# Altium footprint library THT_General.PcbLib: 10 footprints
Each footprint in its own frame and in the unit in brackets; x right, y up, seen from the top. Pads: shape width x height; smd on the part's side, far side on the other; paste and mask are expansions set on the pad; w line width, h text height; cw(c..) or ccw(c..) is an arc to the next point about the centre after c.
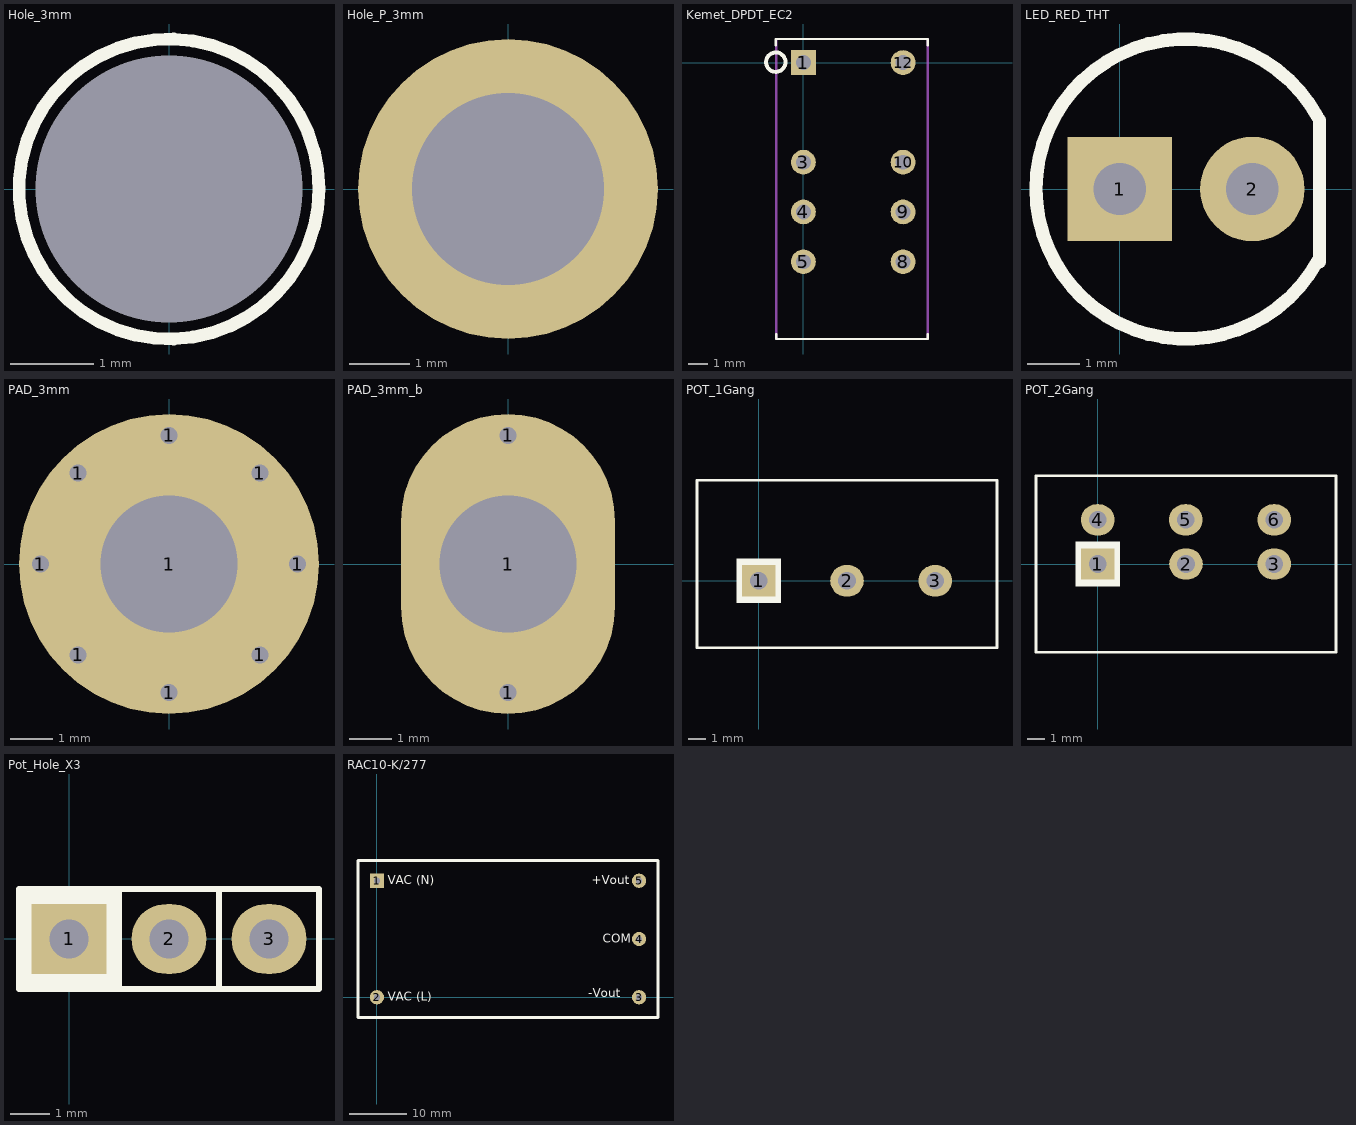
[diagram p0: the footprints below, top view; thin cyan lines are the x and y axes]

## Hole_3mm [mm]
pads (1):
  round 0 hole 3.2: 1(0,0)
Top Overlay:
  circle w0.152: c0,0 r1.8

## Hole_P_3mm [mm]
pads (1):
  round 5 hole 3.2: ""(0,0)

## Kemet_DPDT_EC2 [mm] "Relay Non-latch type and single coil latch type"
pads (8):
  rect 1.258x1.258 hole 0.75: 1(0,0)
  round 1.258 hole 0.75: 3(0,-5.08) 4(0,-7.62) 5(0,-10.16) 8(5.08,-10.16) 9(5.08,-7.62) 10(5.08,-5.08) 12(5.08,0)
Top Overlay:
  circle w0.2: c-1.41,0.02 r0.495
  lines w0.127: -1.41,0.884 -1.41,1.2 6.35,1.2 6.35,0.884 ; -1.397,-13.843 -1.397,-14.097 6.35,-14.097 6.35,-13.843
Mechanical 1:
  lines w0.127: -1.397,-14.097 6.35,-14.097 6.35,1.2 -1.397,1.2 -1.397,-14.097
3D body "20758N''.stp": height 9.2, standoff -2.95, extent -1.11,-13.877 6.19,0.923

## LED_RED_THT [mm]
pads (2):
  rect 2x2 hole 1: 1(0,0)
  round 2 hole 1: 2(2.54,0)
Top Overlay:
  lines w0.254: 3.778,-1.4 cw(c1.27,0) 3.778,1.4 ; 3.825,-1.4 3.825,1.317
3D body "ALSRobot-LED Red 5mm.STEP": height 12.31, standoff -2.49, extent -1.61,-2.972 3.81,3.048

## PAD_3mm [mm]
pads (9):
  round 0.8 hole 0.4: 1(-3,0) 1(-2.121,-2.121) 1(-2.121,2.121) 1(0,-3) 1(0,3) 1(2.121,-2.121) 1(2.121,2.121) 1(3,0)
  round 7 hole 3.2: 1(0,0)

## PAD_3mm_b [mm]
pads (3):
  round 0.8 hole 0.4: 1(0,-3) 1(0,3)
  oval 5x7 hole 3.2: 1(0,0)

## POT_1Gang [mm]
pads (3):
  rect 1.905x1.778 hole 1: 1(0,0)
  oval 1.905x1.778 hole 1: 2(5,0) 3(10,0)
Top Overlay:
  rectangle: -1.27,-1.27 1.27,1.27
  lines w0.152: -3.5,-3.8 13.5,-3.8 13.5,5.7 -3.5,5.7 -3.5,-3.8
3D body "User Library-User Library-Potentiometer.STEP": height 21.38, standoff -3.56, extent -3.4,-18.465 13.364,5.665

## POT_2Gang [mm]
pads (6):
  rect 1.905x1.778 hole 1: 1(0,0)
  oval 1.905x1.778 hole 1: 2(5,0) 3(10,0) 4(0,2.5) 5(4.982,2.5) 6(10,2.5)
Top Overlay:
  rectangle: -1.27,-1.27 1.27,1.27
  lines w0.152: -3.5,-5 13.5,-5 13.5,5 -3.5,5 -3.5,-5
3D body "User Library-User Library-Potentiometer.STEP": height 21.38, standoff -3.56, extent -3.4,-16.065 13.364,8.065
3D body "User Library-User Library-Potentiometer.STEP": height 21.38, standoff -3.56, extent -3.4,-18.465 13.364,5.665

## Pot_Hole_X3 [mm] "3-pin, 2.54"
pads (3):
  rect 1.905x1.778 hole 1: 1(0,0)
  oval 1.905x1.778 hole 1: 2(2.54,0) 3(5.08,0)
Top Overlay:
  rectangle: -1.27,-1.27 1.27,1.27
  lines w0.152: -1.27,-1.27 -1.27,1.27 6.35,1.27 6.35,-1.268 -1.27,-1.268 ; 1.27,-1.27 1.27,1.27 ; 3.81,-1.268 3.81,1.27 ; 3.81,1.27 3.81,1.27

## RAC10-K/277 [mm] "RECOM AC/DC power supply"
pads (5):
  rect 2.5x2.5 hole 1.1: 1(0,20.32)
  round 2.5 hole 1.1: 2(0,0) 3(45.72,0) 4(45.72,10.16) 5(45.72,20.32)
Top Overlay:
  lines w0.508: -3.302,-3.556 -3.302,23.876 49.022,23.876 49.022,-3.556 -3.302,-3.556
  text "-Vout" at 36.83,0 h1.52
  text "+Vout" at 37.465,19.685 h1.52
  text "COM" at 39.37,9.525 h1.52
  text "VAC (L)" at 1.905,-0.635 h1.52
  text "VAC (N)" at 1.905,19.685 h1.52
3D body: height 23, standoff 0, extent -3.175,-3.175 48.895,23.495